# Altium schematic symbol library lib_hirose.SchLib: 2 symbols
Pins are listed as number, name and electrical type; pins without a type are passive.

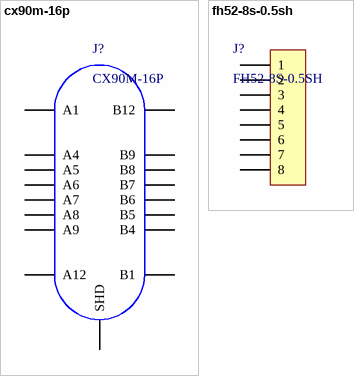
[diagram p0: symbols cx90m-16p to fh52-8s-0.5sh]

## cx90m-16p
designator J?, comment CX90M-16P
USB - C USB 2.0 OTG Receptacle Connector; ComponentLink1Description: datasheet; ComponentLink1URL: https://www.hirose.com/product/download/?distributor=digikey&type=2d&lang=en&num=CX90M-16P
footprint CX90M-16P
pins: A1, A4, A5, A6, A7, A8, A9, A12, B1, B4, B5, B6, B7, B8, B9, B12, SHD

## fh52-8s-0.5sh
designator J?, comment FH52-8S-0.5SH
footprint fh52e-8s-0.5sh_flex (FH52E-8S-0.5SH)
pins: 1, 2, 3, 4, 5, 6, 7, 8